# Altium schematic symbol library Trans,NPN,40V,200mA,SOT1123.Schlib: 1 symbol
Pins are listed as number, name and electrical type; pins without a type are passive.

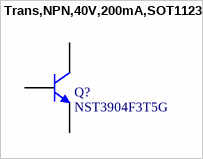
[diagram p0: symbol Trans,NPN,40V,200mA,SOT1123]

## Trans,NPN,40V,200mA,SOT1123
designator Q?, comment NST3904F3T5G
Bipolar (BJT) Transistor NPN 40 V 200 mA 200MHz 290 mW Surface Mount SOT-1123
pins: 1 B, 2 E, 3 C